# EAGLE library part WINSTAR-WEH00 (library lcd-char)
Winstar OLED WEH0016xx Display
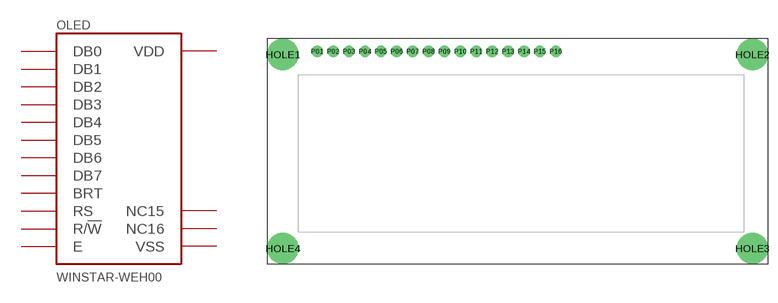
[diagram p2: symbol with the pads of WINSTAR-WEH001602; footprint WINSTAR-WEH001602]

Designator prefix OLED

## WINSTAR-WEH00  [WINSTAR-WEH001602]
P01  VSS  pwr
P02  VDD  pwr
P03  BRT  nc
P04  RS  in
P05  R/!W  in
P06  E  in
P07  DB0
P08  DB1
P09  DB2
P10  DB3
P11  DB4
P12  DB5
P13  DB6
P14  DB7
P15  NC15  nc
P16  NC16  nc

## Footprint WINSTAR-WEH001602 (pad centres in mm)
drill 2.5 pad 5: HOLE1 -36.87,15.28; HOLE2 38.13,15.28; HOLE3 38.13,-15.72; HOLE4 -36.87,-15.72
drill 1 pad 1.8: P01 -31.37,15.78; P02 -28.83,15.78; P03 -26.29,15.78; P04 -23.75,15.78; P05 -21.21,15.78; P06 -18.67,15.78; P07 -16.13,15.78; P08 -13.59,15.78; P09 -11.05,15.78; P10 -8.51,15.78; P11 -5.97,15.78; P12 -3.43,15.78; P13 -0.89,15.78; P14 1.65,15.78; P15 4.19,15.78; P16 6.73,15.78